# Altium schematic symbol library TS3021AILT.SchLib: 1 symbol
Pins are listed as number, name and electrical type; pins without a type are passive.

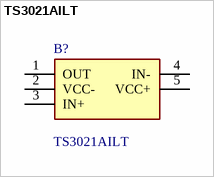
[diagram p0: symbol TS3021AILT]

## TS3021AILT
designator B?
Rail-to-rail 1.8 V high-speed comparator, small input offset voltage; Manufacturer_Name: STMicroelectronics; Geometry.Height: 1.45mm; Mouser Part Number: 511-TS3021AILT; Mouser Price/Stock: https://www.mouser.co.uk/ProductDetail/STMicroelectronics/TS3021AILT?qs=U58vgkJzipTYTZ89iH%2FIVA%3D%3D; Manufacturer_Part_Number: TS3021AILT; Datasheet Link: https://www.st.com/resource/en/datasheet/ts3021.pdf
footprint SOT95P280X145-5N
pins: 1 OUT, 2 VCC-, 3 IN+, 4 IN-, 5 VCC+